# Altium integrated library Maxim Power and Battery Management.IntLib: 645 symbols (part 9 of 15)
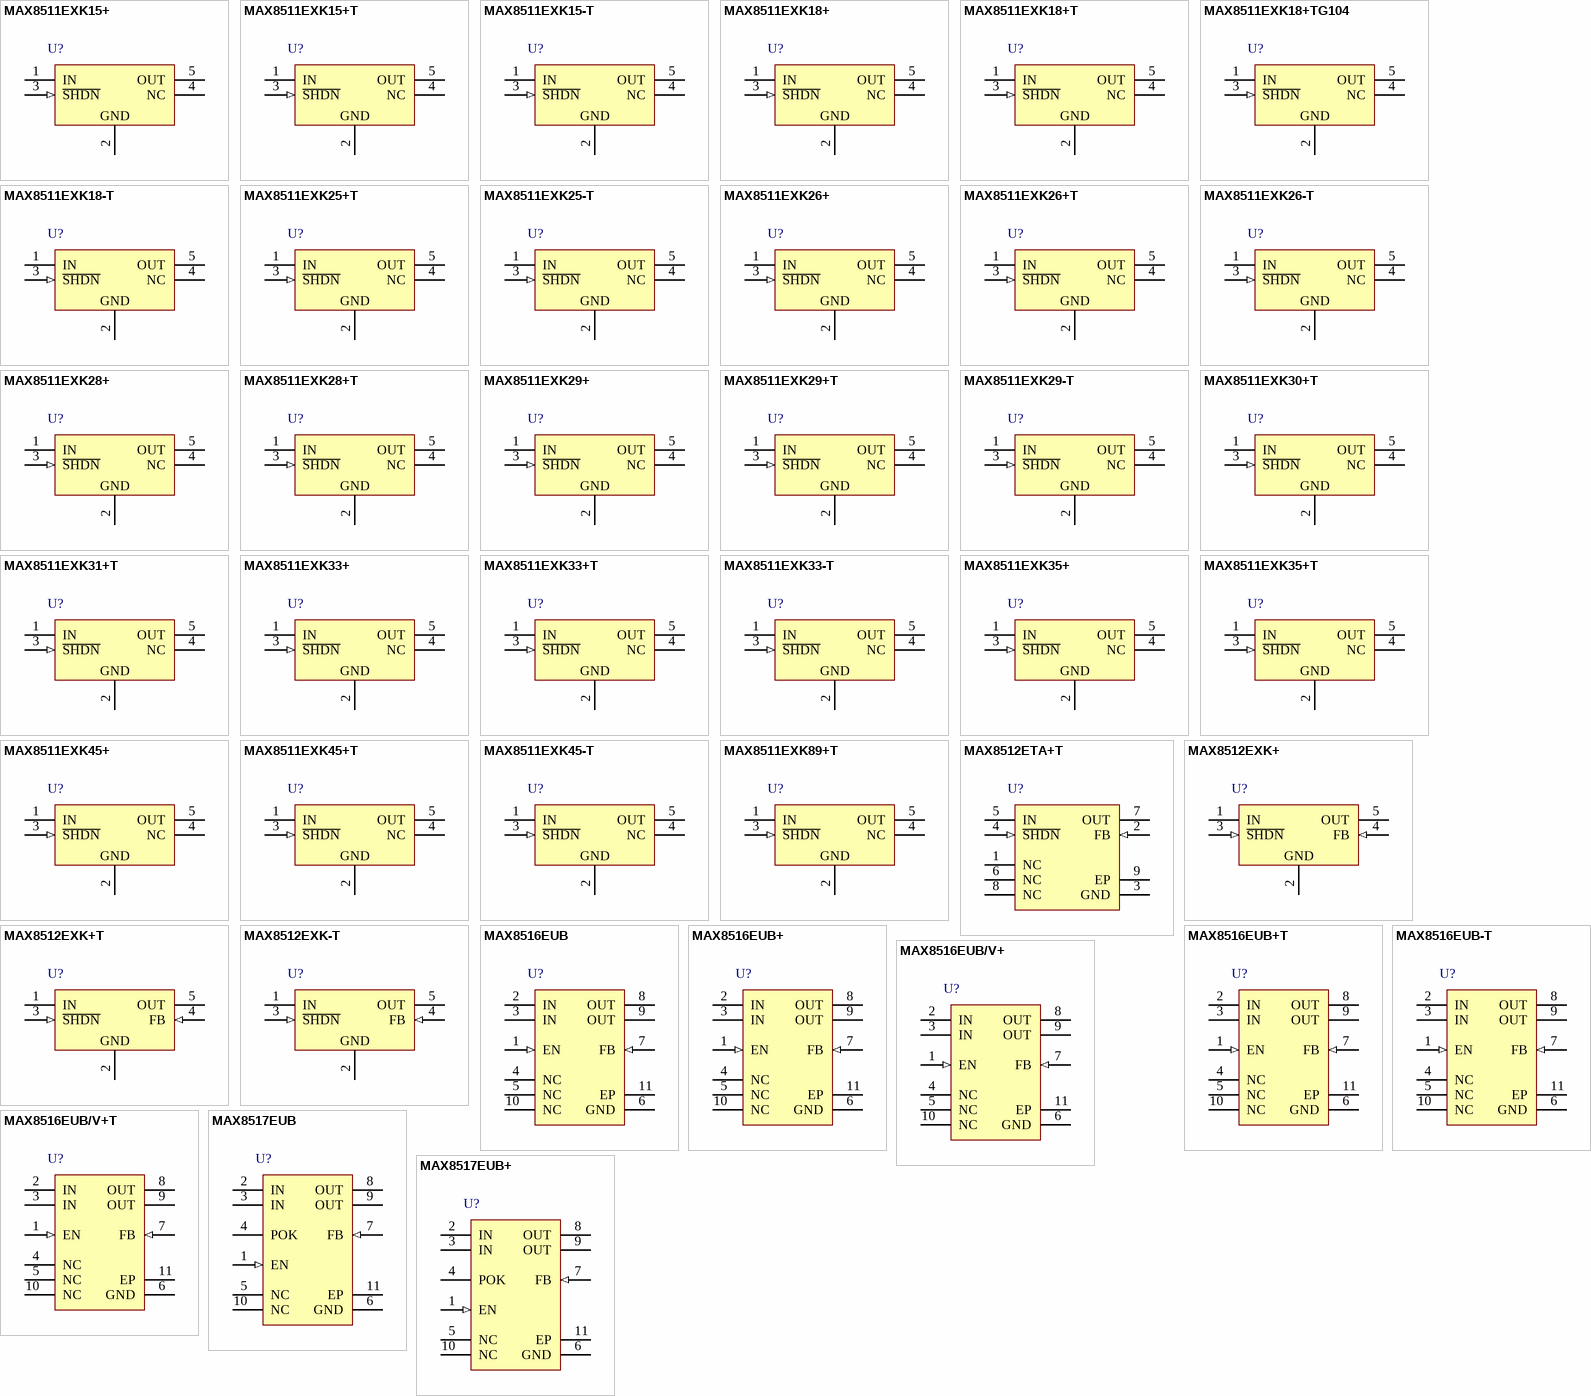
[diagram p27: symbols MAX8511EXK15+ to MAX8517EUB+]

## MAX8511EXK33+T
designator U?
Ultra-Low-Noise, High PSRR, Low-Dropout, 120mA Linear Regulator, 3.3V Out, 5-Pin SC70, -40°C to +85°C, Pb-Free, Tape and Reel; DatasheetVersion: Rev 4, Aug-2011; PackageVersion: revE, 2006; PackageReference: X5+1; PackageDescription: 5-Pin SC70 Transistor Package, 0.65 mm Pitch, 2.2 mm Lead Span; Code_JEDEC: MO-203; ComponentLink1Description: Manufacturer URL; ComponentLink1URL: http://www.maxim-ic.com; ComponentLink2Description: Datasheet; ComponentLink2URL: http://datasheets.maxim-ic.com/en/ds/MAX8510-MAX8512.pdf; ComponentLink3Description: Package Specification; ComponentLink3URL: http://pdfserv.maxim-ic.com/package_dwgs/21-0076.PDF
footprint X5+1_N (SOT353, 5-Leads, Body 2x1.3mm, Pitch 0.65mm, Lead Span 2.1mm, IPC Medium Density)
footprint X5+1_L (SOT353, 5-Leads, Body 2x1.3mm, Pitch 0.65mm, Lead Span 2.1mm, IPC High Density)
footprint X5+1_M (SOT353, 5-Leads, Body 2x1.3mm, Pitch 0.65mm, Lead Span 2.1mm, IPC Low Density)
pins: 1 IN (power), 2 GND (power), 3 ~{SHDN} (in), 4 NC, 5 OUT (power)

## MAX8511EXK33-T
designator U?
Ultra-Low-Noise, High PSRR, Low-Dropout, 120mA Linear Regulator, 3.3V Out, 5-Pin SC70, -40°C to +85°C, Tape and Reel; DatasheetVersion: Rev 4, Aug-2011; PackageVersion: revE, 2006; PackageReference: X5-1; PackageDescription: 5-Pin SC70 Transistor Package, 0.65 mm Pitch, 2.2 mm Lead Span; Code_JEDEC: MO-203; ComponentLink1Description: Manufacturer URL; ComponentLink1URL: http://www.maxim-ic.com; ComponentLink2Description: Datasheet; ComponentLink2URL: http://datasheets.maxim-ic.com/en/ds/MAX8510-MAX8512.pdf; ComponentLink3Description: Package Specification; ComponentLink3URL: http://pdfserv.maxim-ic.com/package_dwgs/21-0076.PDF
footprint X5-1_N (SOT353, 5-Leads, Body 2x1.3mm, Pitch 0.65mm, Lead Span 2.1mm, IPC Medium Density)
footprint X5-1_L (SOT353, 5-Leads, Body 2x1.3mm, Pitch 0.65mm, Lead Span 2.1mm, IPC High Density)
footprint X5-1_M (SOT353, 5-Leads, Body 2x1.3mm, Pitch 0.65mm, Lead Span 2.1mm, IPC Low Density)
pins: 1 IN (power), 2 GND (power), 3 ~{SHDN} (in), 4 NC, 5 OUT (power)

## MAX8511EXK35+
designator U?
Ultra-Low-Noise, High PSRR, Low-Dropout, 120mA Linear Regulator, 5-Pin SC70, -40°C to +85°C, Pb-Free; DatasheetVersion: Rev 4, Aug-2011; PackageVersion: revE, 2006; PackageReference: X5+1; PackageDescription: 5-Pin SC70 Transistor Package, 0.65 mm Pitch, 2.2 mm Lead Span; Code_JEDEC: MO-203; ComponentLink1Description: Manufacturer URL; ComponentLink1URL: http://www.maxim-ic.com; ComponentLink2Description: Datasheet; ComponentLink2URL: http://datasheets.maxim-ic.com/en/ds/MAX8510-MAX8512.pdf; ComponentLink3Description: Package Specification; ComponentLink3URL: http://pdfserv.maxim-ic.com/package_dwgs/21-0076.PDF
footprint X5+1_N (SOT353, 5-Leads, Body 2x1.3mm, Pitch 0.65mm, Lead Span 2.1mm, IPC Medium Density)
footprint X5+1_L (SOT353, 5-Leads, Body 2x1.3mm, Pitch 0.65mm, Lead Span 2.1mm, IPC High Density)
footprint X5+1_M (SOT353, 5-Leads, Body 2x1.3mm, Pitch 0.65mm, Lead Span 2.1mm, IPC Low Density)
pins: 1 IN (power), 2 GND (power), 3 ~{SHDN} (in), 4 NC, 5 OUT (power)

## MAX8511EXK35+T
designator U?
Ultra-Low-Noise, High PSRR, Low-Dropout, 120mA Linear Regulator, 5-Pin SC70, -40°C to +85°C, Pb-Free, Tape and Reel; DatasheetVersion: Rev 4, Aug-2011; PackageVersion: revE, 2006; PackageReference: X5+1; PackageDescription: 5-Pin SC70 Transistor Package, 0.65 mm Pitch, 2.2 mm Lead Span; Code_JEDEC: MO-203; ComponentLink1Description: Manufacturer URL; ComponentLink1URL: http://www.maxim-ic.com; ComponentLink2Description: Datasheet; ComponentLink2URL: http://datasheets.maxim-ic.com/en/ds/MAX8510-MAX8512.pdf; ComponentLink3Description: Package Specification; ComponentLink3URL: http://pdfserv.maxim-ic.com/package_dwgs/21-0076.PDF
footprint X5+1_N (SOT353, 5-Leads, Body 2x1.3mm, Pitch 0.65mm, Lead Span 2.1mm, IPC Medium Density)
footprint X5+1_L (SOT353, 5-Leads, Body 2x1.3mm, Pitch 0.65mm, Lead Span 2.1mm, IPC High Density)
footprint X5+1_M (SOT353, 5-Leads, Body 2x1.3mm, Pitch 0.65mm, Lead Span 2.1mm, IPC Low Density)
pins: 1 IN (power), 2 GND (power), 3 ~{SHDN} (in), 4 NC, 5 OUT (power)

## MAX8511EXK45+
designator U?
Ultra-Low-Noise, High PSRR, Low-Dropout, 120mA Linear Regulator, 4.5V Out, 5-Pin SC70, -40°C to +85°C, Pb-Free; DatasheetVersion: Rev 4, Aug-2011; PackageVersion: revE, 2006; PackageReference: X5+1; PackageDescription: 5-Pin SC70 Transistor Package, 0.65 mm Pitch, 2.2 mm Lead Span; Code_JEDEC: MO-203; ComponentLink1Description: Manufacturer URL; ComponentLink1URL: http://www.maxim-ic.com; ComponentLink2Description: Datasheet; ComponentLink2URL: http://datasheets.maxim-ic.com/en/ds/MAX8510-MAX8512.pdf; ComponentLink3Description: Package Specification; ComponentLink3URL: http://pdfserv.maxim-ic.com/package_dwgs/21-0076.PDF
footprint X5+1_N (SOT353, 5-Leads, Body 2x1.3mm, Pitch 0.65mm, Lead Span 2.1mm, IPC Medium Density)
footprint X5+1_L (SOT353, 5-Leads, Body 2x1.3mm, Pitch 0.65mm, Lead Span 2.1mm, IPC High Density)
footprint X5+1_M (SOT353, 5-Leads, Body 2x1.3mm, Pitch 0.65mm, Lead Span 2.1mm, IPC Low Density)
pins: 1 IN (power), 2 GND (power), 3 ~{SHDN} (in), 4 NC, 5 OUT (power)

## MAX8511EXK45+T
designator U?
Ultra-Low-Noise, High PSRR, Low-Dropout, 120mA Linear Regulator, 4.5V Out, 5-Pin SC70, -40°C to +85°C, Pb-Free, Tape and Reel; DatasheetVersion: Rev 4, Aug-2011; PackageVersion: revE, 2006; PackageReference: X5+1; PackageDescription: 5-Pin SC70 Transistor Package, 0.65 mm Pitch, 2.2 mm Lead Span; Code_JEDEC: MO-203; ComponentLink1Description: Manufacturer URL; ComponentLink1URL: http://www.maxim-ic.com; ComponentLink2Description: Datasheet; ComponentLink2URL: http://datasheets.maxim-ic.com/en/ds/MAX8510-MAX8512.pdf; ComponentLink3Description: Package Specification; ComponentLink3URL: http://pdfserv.maxim-ic.com/package_dwgs/21-0076.PDF
footprint X5+1_N (SOT353, 5-Leads, Body 2x1.3mm, Pitch 0.65mm, Lead Span 2.1mm, IPC Medium Density)
footprint X5+1_L (SOT353, 5-Leads, Body 2x1.3mm, Pitch 0.65mm, Lead Span 2.1mm, IPC High Density)
footprint X5+1_M (SOT353, 5-Leads, Body 2x1.3mm, Pitch 0.65mm, Lead Span 2.1mm, IPC Low Density)
pins: 1 IN (power), 2 GND (power), 3 ~{SHDN} (in), 4 NC, 5 OUT (power)

## MAX8511EXK45-T
designator U?
Ultra-Low-Noise, High PSRR, Low-Dropout, 120mA Linear Regulator, 4.5V Out, 5-Pin SC70, -40°C to +85°C, Tape and Reel; DatasheetVersion: Rev 4, Aug-2011; PackageVersion: revE, 2006; PackageReference: X5-1; PackageDescription: 5-Pin SC70 Transistor Package, 0.65 mm Pitch, 2.2 mm Lead Span; Code_JEDEC: MO-203; ComponentLink1Description: Manufacturer URL; ComponentLink1URL: http://www.maxim-ic.com; ComponentLink2Description: Datasheet; ComponentLink2URL: http://datasheets.maxim-ic.com/en/ds/MAX8510-MAX8512.pdf; ComponentLink3Description: Package Specification; ComponentLink3URL: http://pdfserv.maxim-ic.com/package_dwgs/21-0076.PDF
footprint X5-1_N (SOT353, 5-Leads, Body 2x1.3mm, Pitch 0.65mm, Lead Span 2.1mm, IPC Medium Density)
footprint X5-1_L (SOT353, 5-Leads, Body 2x1.3mm, Pitch 0.65mm, Lead Span 2.1mm, IPC High Density)
footprint X5-1_M (SOT353, 5-Leads, Body 2x1.3mm, Pitch 0.65mm, Lead Span 2.1mm, IPC Low Density)
pins: 1 IN (power), 2 GND (power), 3 ~{SHDN} (in), 4 NC, 5 OUT (power)

## MAX8511EXK89+T
designator U?
Ultra-Low-Noise, High PSRR, Low-Dropout, 120mA Linear Regulator, 2.9V Out, 5-Pin SC70, -40°C to +85°C, Pb-Free, Tape and Reel; DatasheetVersion: Rev 4, Aug-2011; PackageVersion: revE, 2006; PackageReference: X5+1; PackageDescription: 5-Pin SC70 Transistor Package, 0.65 mm Pitch, 2.2 mm Lead Span; Code_JEDEC: MO-203; ComponentLink1Description: Manufacturer URL; ComponentLink1URL: http://www.maxim-ic.com; ComponentLink2Description: Datasheet; ComponentLink2URL: http://datasheets.maxim-ic.com/en/ds/MAX8510-MAX8512.pdf; ComponentLink3Description: Package Specification; ComponentLink3URL: http://pdfserv.maxim-ic.com/package_dwgs/21-0076.PDF
footprint X5+1_N (SOT353, 5-Leads, Body 2x1.3mm, Pitch 0.65mm, Lead Span 2.1mm, IPC Medium Density)
footprint X5+1_L (SOT353, 5-Leads, Body 2x1.3mm, Pitch 0.65mm, Lead Span 2.1mm, IPC High Density)
footprint X5+1_M (SOT353, 5-Leads, Body 2x1.3mm, Pitch 0.65mm, Lead Span 2.1mm, IPC Low Density)
pins: 1 IN (power), 2 GND (power), 3 ~{SHDN} (in), 4 NC, 5 OUT (power)

## MAX8512ETA+T
designator U?
Ultra-Low-Noise, High PSRR, Low-Dropout, 120mA Linear Regulator, Adjustable Vout, 8-Pin TDFN-EP, -40°C to +85°C, Pb-Free, Tape and Reel; DatasheetVersion: Rev 4, Aug-2011; PackageVersion: revF, 2011; PackageReference: T822+1; PackageDescription: 8-Pin Plastic Very Very Thin Dual Flatpack, No Leads, 2 x 2 x 0.75 mm Body, 0.5 mm Pitch, TDFN, Pb-Free; Code_JEDEC: MO-229*; ComponentLink1Description: Manufacturer URL; ComponentLink1URL: http://www.maxim-ic.com; ComponentLink2Description: Datasheet; ComponentLink2URL: http://datasheets.maxim-ic.com/en/ds/MAX8510-MAX8512.pdf; ComponentLink3Description: Package Specification; ComponentLink3URL: http://pdfserv.maxim-ic.com/package_dwgs/21-0168.PDF
footprint T822+1_N (SON, 8-Leads, Body 2x2mm, Pitch 0.5mm, Thermal Pad 1.3x0.7mm, IPC Medium Density)
footprint T822+1_L (SON, 8-Leads, Body 2x2mm, Pitch 0.5mm, Thermal Pad 1.3x0.7mm, IPC High Density)
footprint T822+1_M (SON, 8-Leads, Body 2x2mm, Pitch 0.5mm, Thermal Pad 1.3x0.7mm, IPC Low Density)
pins: 1 NC, 2 FB (in), 3 GND (power), 4 ~{SHDN} (in), 5 IN (power), 6 NC, 7 OUT (power), 8 NC, 9 EP (power)

## MAX8512EXK+
designator U?
Ultra-Low-Noise, High PSRR, Low-Dropout, 120mA Linear Regulator, Adjustable Vout, 5-Pin SC70, -40°C to +85°C, Pb-Free; DatasheetVersion: Rev 4, Aug-2011; PackageVersion: revE, 2006; PackageReference: X5+1; PackageDescription: 5-Pin SC70 Transistor Package, 0.65 mm Pitch, 2.2 mm Lead Span; Code_JEDEC: MO-203; ComponentLink1Description: Manufacturer URL; ComponentLink1URL: http://www.maxim-ic.com; ComponentLink2Description: Datasheet; ComponentLink2URL: http://datasheets.maxim-ic.com/en/ds/MAX8510-MAX8512.pdf; ComponentLink3Description: Package Specification; ComponentLink3URL: http://pdfserv.maxim-ic.com/package_dwgs/21-0076.PDF
footprint X5+1_N (SOT353, 5-Leads, Body 2x1.3mm, Pitch 0.65mm, Lead Span 2.1mm, IPC Medium Density)
footprint X5+1_L (SOT353, 5-Leads, Body 2x1.3mm, Pitch 0.65mm, Lead Span 2.1mm, IPC High Density)
footprint X5+1_M (SOT353, 5-Leads, Body 2x1.3mm, Pitch 0.65mm, Lead Span 2.1mm, IPC Low Density)
pins: 1 IN (power), 2 GND (power), 3 ~{SHDN} (in), 4 FB (in), 5 OUT (power)

## MAX8512EXK+T
designator U?
Ultra-Low-Noise, High PSRR, Low-Dropout, 120mA Linear Regulator, Adjustable Vout, 5-Pin SC70, -40°C to +85°C, Pb-Free, Tape and Reel; DatasheetVersion: Rev 4, Aug-2011; PackageVersion: revE, 2006; PackageReference: X5+1; PackageDescription: 5-Pin SC70 Transistor Package, 0.65 mm Pitch, 2.2 mm Lead Span; Code_JEDEC: MO-203; ComponentLink1Description: Manufacturer URL; ComponentLink1URL: http://www.maxim-ic.com; ComponentLink2Description: Datasheet; ComponentLink2URL: http://datasheets.maxim-ic.com/en/ds/MAX8510-MAX8512.pdf; ComponentLink3Description: Package Specification; ComponentLink3URL: http://pdfserv.maxim-ic.com/package_dwgs/21-0076.PDF
footprint X5+1_N (SOT353, 5-Leads, Body 2x1.3mm, Pitch 0.65mm, Lead Span 2.1mm, IPC Medium Density)
footprint X5+1_L (SOT353, 5-Leads, Body 2x1.3mm, Pitch 0.65mm, Lead Span 2.1mm, IPC High Density)
footprint X5+1_M (SOT353, 5-Leads, Body 2x1.3mm, Pitch 0.65mm, Lead Span 2.1mm, IPC Low Density)
pins: 1 IN (power), 2 GND (power), 3 ~{SHDN} (in), 4 FB (in), 5 OUT (power)

## MAX8512EXK-T
designator U?
Ultra-Low-Noise, High PSRR, Low-Dropout, 120mA Linear Regulator, Adjustable Vout, 5-Pin SC70, -40°C to +85°C, Tape and Reel; DatasheetVersion: Rev 4, Aug-2011; PackageVersion: revE, 2006; PackageReference: X5-1; PackageDescription: 5-Pin SC70 Transistor Package, 0.65 mm Pitch, 2.2 mm Lead Span; Code_JEDEC: MO-203; ComponentLink1Description: Manufacturer URL; ComponentLink1URL: http://www.maxim-ic.com; ComponentLink2Description: Datasheet; ComponentLink2URL: http://datasheets.maxim-ic.com/en/ds/MAX8510-MAX8512.pdf; ComponentLink3Description: Package Specification; ComponentLink3URL: http://pdfserv.maxim-ic.com/package_dwgs/21-0076.PDF
footprint X5-1_N (SOT353, 5-Leads, Body 2x1.3mm, Pitch 0.65mm, Lead Span 2.1mm, IPC Medium Density)
footprint X5-1_L (SOT353, 5-Leads, Body 2x1.3mm, Pitch 0.65mm, Lead Span 2.1mm, IPC High Density)
footprint X5-1_M (SOT353, 5-Leads, Body 2x1.3mm, Pitch 0.65mm, Lead Span 2.1mm, IPC Low Density)
pins: 1 IN (power), 2 GND (power), 3 ~{SHDN} (in), 4 FB (in), 5 OUT (power)

## MAX8516EUB
designator U?
1.425V to 3.6V Input, 1A, 0.2V Dropout LDO Regulator, 10-Pin uMax-EP, -40°C to +85°C; DatasheetVersion: Rev 2, Sep-2009; PackageVersion: revF, 2011; PackageReference: U10E-3; PackageDescription: 10-Pin Micro-MAX, Thin Shrink Small-Outline, 0.5 mm Pitch, Exposed Pad, uMax, uSOP; ComponentLink1Description: Manufacturer URL; ComponentLink1URL: http://www.maxim-ic.com; ComponentLink2Description: Datasheet; ComponentLink2URL: http://datasheets.maxim-ic.com/en/ds/MAX8516-MAX8518.pdf; ComponentLink3Description: Package Specification; ComponentLink3URL: http://pdfserv.maxim-ic.com/package_dwgs/21-0109.PDF
footprint U10E-3_N (TSSOP, 10-Leads, Body 3x3mm, Pitch 0.5mm, Thermal Pad, IPC Medium Density)
footprint U10E-3_L (TSSOP, 10-Leads, Body 3x3mm, Pitch 0.5mm, Thermal Pad, IPC High Density)
footprint U10E-3_M (TSSOP, 10-Leads, Body 3x3mm, Pitch 0.5mm, Thermal Pad, IPC Low Density)
pins: 1 EN (in), 2 IN (power), 3 IN (power), 4 NC, 5 NC, 6 GND (power), 7 FB (in), 8 OUT (power), 9 OUT (power), 10 NC, 11 EP (power)

## MAX8516EUB+
designator U?
1.425V to 3.6V Input, 1A, 0.2V Dropout LDO Regulator, 10-Pin uMax-EP, -40°C to +85°C, Pb-Free; DatasheetVersion: Rev 2, Sep-2009; PackageVersion: revF, 2011; PackageReference: U10E+3; PackageDescription: 10-Pin Micro-MAX, Thin Shrink Small-Outline, 0.5 mm Pitch, Exposed Pad, uMax, uSOP, Pb-Free; ComponentLink1Description: Manufacturer URL; ComponentLink1URL: http://www.maxim-ic.com; ComponentLink2Description: Datasheet; ComponentLink2URL: http://datasheets.maxim-ic.com/en/ds/MAX8516-MAX8518.pdf; ComponentLink3Description: Package Specification; ComponentLink3URL: http://pdfserv.maxim-ic.com/package_dwgs/21-0109.PDF
footprint U10E+3_N (TSSOP, 10-Leads, Body 3x3mm, Pitch 0.5mm, Thermal Pad, IPC Medium Density)
footprint U10E+3_L (TSSOP, 10-Leads, Body 3x3mm, Pitch 0.5mm, Thermal Pad, IPC High Density)
footprint U10E+3_M (TSSOP, 10-Leads, Body 3x3mm, Pitch 0.5mm, Thermal Pad, IPC Low Density)
pins: 1 EN (in), 2 IN (power), 3 IN (power), 4 NC, 5 NC, 6 GND (power), 7 FB (in), 8 OUT (power), 9 OUT (power), 10 NC, 11 EP (power)

## MAX8516EUB+T
designator U?
1.425V to 3.6V Input, 1A, 0.2V Dropout LDO Regulator, 10-Pin uMax-EP, -40°C to +85°C, Pb-Free, Tape and Reel; DatasheetVersion: Rev 2, Sep-2009; PackageVersion: revF, 2011; PackageReference: U10E+3; PackageDescription: 10-Pin Micro-MAX, Thin Shrink Small-Outline, 0.5 mm Pitch, Exposed Pad, uMax, uSOP, Pb-Free; ComponentLink1Description: Manufacturer URL; ComponentLink1URL: http://www.maxim-ic.com; ComponentLink2Description: Datasheet; ComponentLink2URL: http://datasheets.maxim-ic.com/en/ds/MAX8516-MAX8518.pdf; ComponentLink3Description: Package Specification; ComponentLink3URL: http://pdfserv.maxim-ic.com/package_dwgs/21-0109.PDF
footprint U10E+3_N (TSSOP, 10-Leads, Body 3x3mm, Pitch 0.5mm, Thermal Pad, IPC Medium Density)
footprint U10E+3_L (TSSOP, 10-Leads, Body 3x3mm, Pitch 0.5mm, Thermal Pad, IPC High Density)
footprint U10E+3_M (TSSOP, 10-Leads, Body 3x3mm, Pitch 0.5mm, Thermal Pad, IPC Low Density)
pins: 1 EN (in), 2 IN (power), 3 IN (power), 4 NC, 5 NC, 6 GND (power), 7 FB (in), 8 OUT (power), 9 OUT (power), 10 NC, 11 EP (power)

## MAX8516EUB-T
designator U?
1.425V to 3.6V Input, 1A, 0.2V Dropout LDO Regulator, 10-Pin uMax-EP, -40°C to +85°C, Tape and Reel; DatasheetVersion: Rev 2, Sep-2009; PackageVersion: revF, 2011; PackageReference: U10E-3; PackageDescription: 10-Pin Micro-MAX, Thin Shrink Small-Outline, 0.5 mm Pitch, Exposed Pad, uMax, uSOP; ComponentLink1Description: Manufacturer URL; ComponentLink1URL: http://www.maxim-ic.com; ComponentLink2Description: Datasheet; ComponentLink2URL: http://datasheets.maxim-ic.com/en/ds/MAX8516-MAX8518.pdf; ComponentLink3Description: Package Specification; ComponentLink3URL: http://pdfserv.maxim-ic.com/package_dwgs/21-0109.PDF
footprint U10E-3_N (TSSOP, 10-Leads, Body 3x3mm, Pitch 0.5mm, Thermal Pad, IPC Medium Density)
footprint U10E-3_L (TSSOP, 10-Leads, Body 3x3mm, Pitch 0.5mm, Thermal Pad, IPC High Density)
footprint U10E-3_M (TSSOP, 10-Leads, Body 3x3mm, Pitch 0.5mm, Thermal Pad, IPC Low Density)
pins: 1 EN (in), 2 IN (power), 3 IN (power), 4 NC, 5 NC, 6 GND (power), 7 FB (in), 8 OUT (power), 9 OUT (power), 10 NC, 11 EP (power)

## MAX8516EUB/V+
designator U?
1.425V to 3.6V Input, 1A, 0.2V Dropout LDO Regulator, Automotive Qualified, 10-Pin uMax-EP, -40°C to +85°C, Pb-Free; DatasheetVersion: Rev 2, Sep-2009; PackageVersion: revF, 2011; PackageReference: U10E+3; PackageDescription: 10-Pin Micro-MAX, Thin Shrink Small-Outline, 0.5 mm Pitch, Exposed Pad, uMax, uSOP, Pb-Free; ComponentLink1Description: Manufacturer URL; ComponentLink1URL: http://www.maxim-ic.com; ComponentLink2Description: Datasheet; ComponentLink2URL: http://datasheets.maxim-ic.com/en/ds/MAX8516-MAX8518.pdf; ComponentLink3Description: Package Specification; ComponentLink3URL: http://pdfserv.maxim-ic.com/package_dwgs/21-0109.PDF
footprint U10E+3_N (TSSOP, 10-Leads, Body 3x3mm, Pitch 0.5mm, Thermal Pad, IPC Medium Density)
footprint U10E+3_L (TSSOP, 10-Leads, Body 3x3mm, Pitch 0.5mm, Thermal Pad, IPC High Density)
footprint U10E+3_M (TSSOP, 10-Leads, Body 3x3mm, Pitch 0.5mm, Thermal Pad, IPC Low Density)
pins: 1 EN (in), 2 IN (power), 3 IN (power), 4 NC, 5 NC, 6 GND (power), 7 FB (in), 8 OUT (power), 9 OUT (power), 10 NC, 11 EP (power)

## MAX8516EUB/V+T
designator U?
1.425V to 3.6V Input, 1A, 0.2V Dropout LDO Regulator, Automotive Qualified, 10-Pin uMax-EP, -40°C to +85°C, Pb-Free, Tape and Reel; DatasheetVersion: Rev 2, Sep-2009; PackageVersion: revF, 2011; PackageReference: U10E+3; PackageDescription: 10-Pin Micro-MAX, Thin Shrink Small-Outline, 0.5 mm Pitch, Exposed Pad, uMax, uSOP, Pb-Free; ComponentLink1Description: Manufacturer URL; ComponentLink1URL: http://www.maxim-ic.com; ComponentLink2Description: Datasheet; ComponentLink2URL: http://datasheets.maxim-ic.com/en/ds/MAX8516-MAX8518.pdf; ComponentLink3Description: Package Specification; ComponentLink3URL: http://pdfserv.maxim-ic.com/package_dwgs/21-0109.PDF
footprint U10E+3_N (TSSOP, 10-Leads, Body 3x3mm, Pitch 0.5mm, Thermal Pad, IPC Medium Density)
footprint U10E+3_L (TSSOP, 10-Leads, Body 3x3mm, Pitch 0.5mm, Thermal Pad, IPC High Density)
footprint U10E+3_M (TSSOP, 10-Leads, Body 3x3mm, Pitch 0.5mm, Thermal Pad, IPC Low Density)
pins: 1 EN (in), 2 IN (power), 3 IN (power), 4 NC, 5 NC, 6 GND (power), 7 FB (in), 8 OUT (power), 9 OUT (power), 10 NC, 11 EP (power)

## MAX8517EUB
designator U?
1.425V to 3.6V Input, 1A, 0.2V Dropout LDO Regulator with POK Output, 10-Pin uMax-EP, -40°C to +85°C; DatasheetVersion: Rev 2, Sep-2009; PackageVersion: revF, 2011; PackageReference: U10E-3; PackageDescription: 10-Pin Micro-MAX, Thin Shrink Small-Outline, 0.5 mm Pitch, Exposed Pad, uMax, uSOP; ComponentLink1Description: Manufacturer URL; ComponentLink1URL: http://www.maxim-ic.com; ComponentLink2Description: Datasheet; ComponentLink2URL: http://datasheets.maxim-ic.com/en/ds/MAX8516-MAX8518.pdf; ComponentLink3Description: Package Specification; ComponentLink3URL: http://pdfserv.maxim-ic.com/package_dwgs/21-0109.PDF
footprint U10E-3_N (TSSOP, 10-Leads, Body 3x3mm, Pitch 0.5mm, Thermal Pad, IPC Medium Density)
footprint U10E-3_L (TSSOP, 10-Leads, Body 3x3mm, Pitch 0.5mm, Thermal Pad, IPC High Density)
footprint U10E-3_M (TSSOP, 10-Leads, Body 3x3mm, Pitch 0.5mm, Thermal Pad, IPC Low Density)
pins: 1 EN (in), 2 IN (power), 3 IN (power), 4 POK (oc), 5 NC, 6 GND (power), 7 FB (in), 8 OUT (power), 9 OUT (power), 10 NC, 11 EP (power)

## MAX8517EUB+
designator U?
1.425V to 3.6V Input, 1A, 0.2V Dropout LDO Regulator with POK Output, 10-Pin uMax-EP, -40°C to +85°C, Pb-Free; DatasheetVersion: Rev 2, Sep-2009; PackageVersion: revF, 2011; PackageReference: U10E+3; PackageDescription: 10-Pin Micro-MAX, Thin Shrink Small-Outline, 0.5 mm Pitch, Exposed Pad, uMax, uSOP, Pb-Free; ComponentLink1Description: Manufacturer URL; ComponentLink1URL: http://www.maxim-ic.com; ComponentLink2Description: Datasheet; ComponentLink2URL: http://datasheets.maxim-ic.com/en/ds/MAX8516-MAX8518.pdf; ComponentLink3Description: Package Specification; ComponentLink3URL: http://pdfserv.maxim-ic.com/package_dwgs/21-0109.PDF
footprint U10E+3_N (TSSOP, 10-Leads, Body 3x3mm, Pitch 0.5mm, Thermal Pad, IPC Medium Density)
footprint U10E+3_L (TSSOP, 10-Leads, Body 3x3mm, Pitch 0.5mm, Thermal Pad, IPC High Density)
footprint U10E+3_M (TSSOP, 10-Leads, Body 3x3mm, Pitch 0.5mm, Thermal Pad, IPC Low Density)
pins: 1 EN (in), 2 IN (power), 3 IN (power), 4 POK (oc), 5 NC, 6 GND (power), 7 FB (in), 8 OUT (power), 9 OUT (power), 10 NC, 11 EP (power)

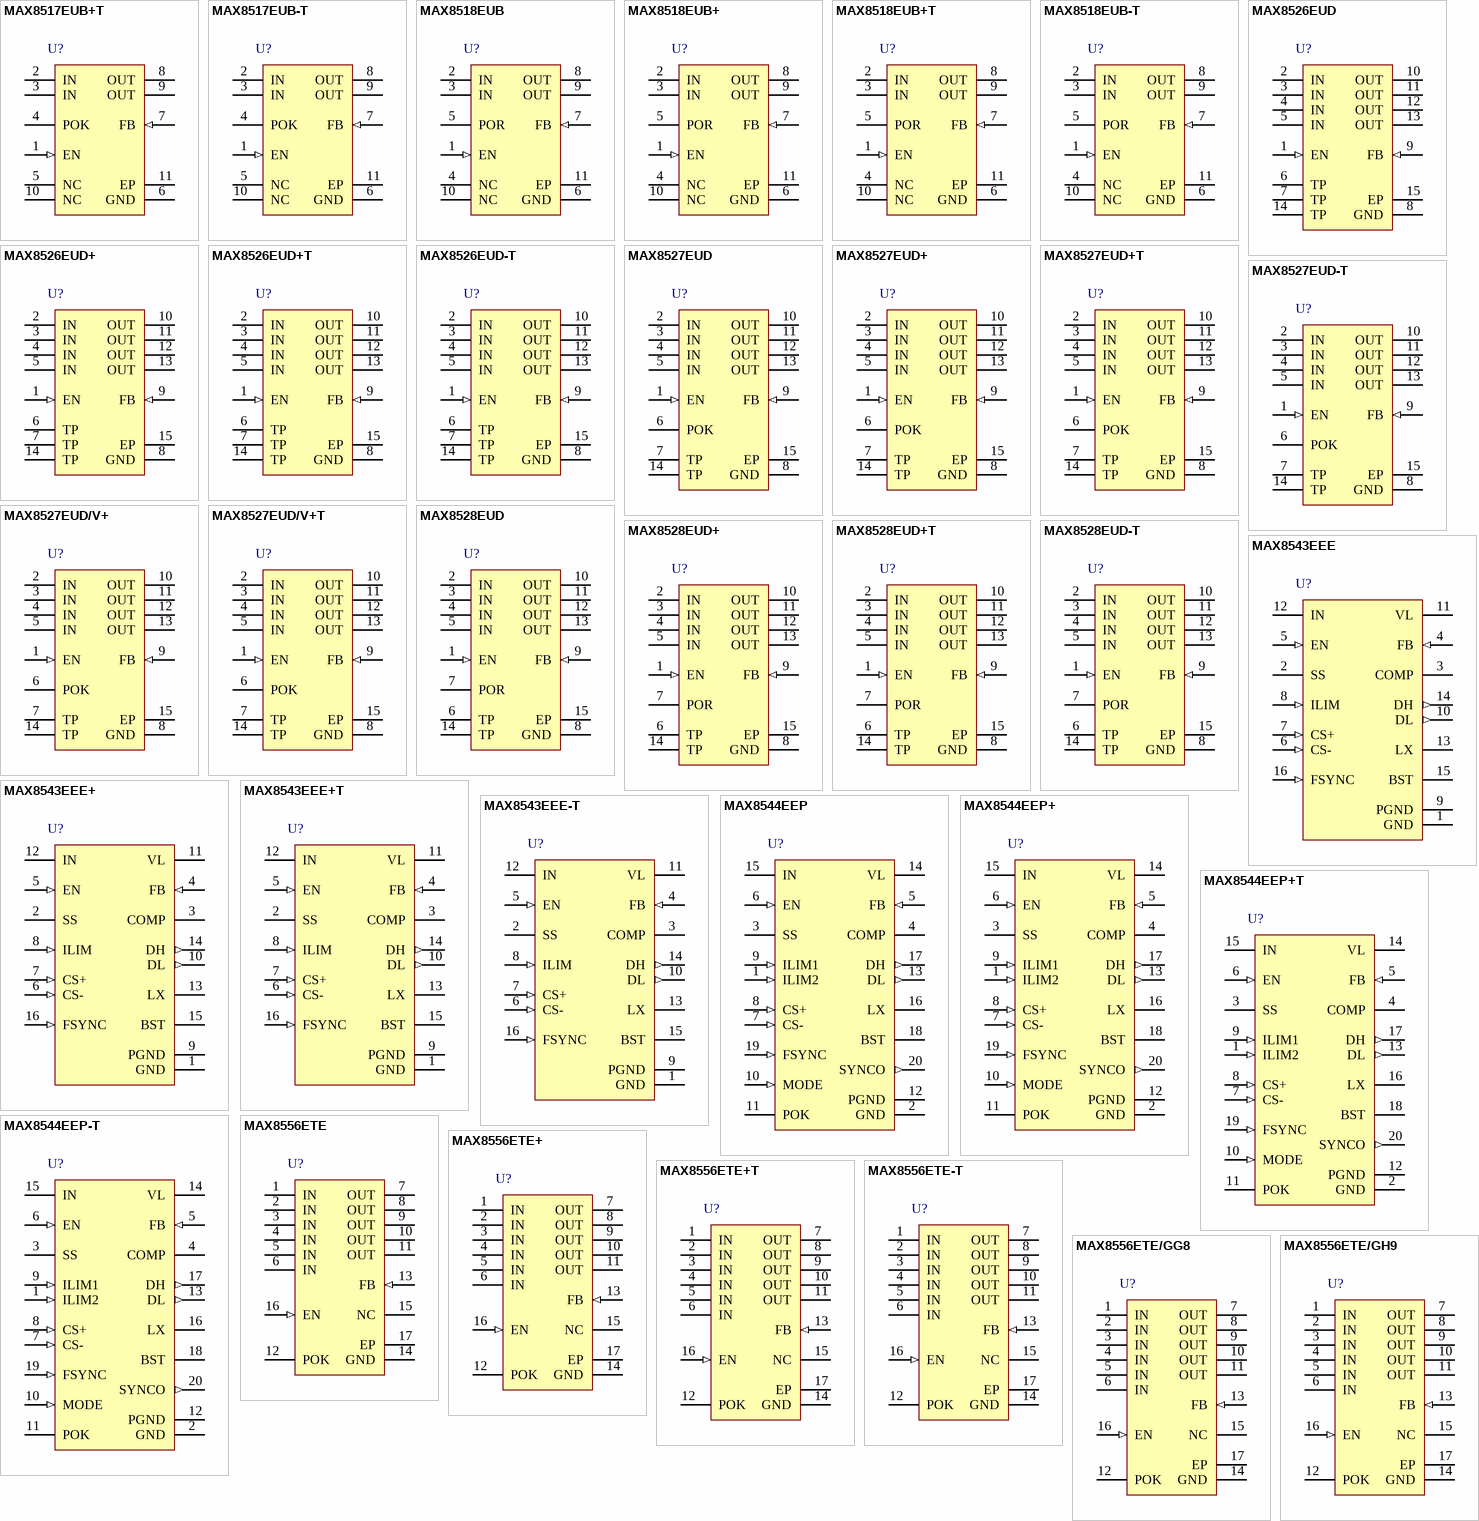
[diagram p11: symbols MAX8517EUB+T to MAX8556ETE/GH9]

## MAX8517EUB+T
designator U?
1.425V to 3.6V Input, 1A, 0.2V Dropout LDO Regulator with POK Output, 10-Pin uMax-EP, -40°C to +85°C, Pb-Free, Tape and Reel; DatasheetVersion: Rev 2, Sep-2009; PackageVersion: revF, 2011; PackageReference: U10E+3; PackageDescription: 10-Pin Micro-MAX, Thin Shrink Small-Outline, 0.5 mm Pitch, Exposed Pad, uMax, uSOP, Pb-Free; ComponentLink1Description: Manufacturer URL; ComponentLink1URL: http://www.maxim-ic.com; ComponentLink2Description: Datasheet; ComponentLink2URL: http://datasheets.maxim-ic.com/en/ds/MAX8516-MAX8518.pdf; ComponentLink3Description: Package Specification; ComponentLink3URL: http://pdfserv.maxim-ic.com/package_dwgs/21-0109.PDF
footprint U10E+3_N (TSSOP, 10-Leads, Body 3x3mm, Pitch 0.5mm, Thermal Pad, IPC Medium Density)
footprint U10E+3_L (TSSOP, 10-Leads, Body 3x3mm, Pitch 0.5mm, Thermal Pad, IPC High Density)
footprint U10E+3_M (TSSOP, 10-Leads, Body 3x3mm, Pitch 0.5mm, Thermal Pad, IPC Low Density)
pins: 1 EN (in), 2 IN (power), 3 IN (power), 4 POK (oc), 5 NC, 6 GND (power), 7 FB (in), 8 OUT (power), 9 OUT (power), 10 NC, 11 EP (power)

## MAX8517EUB-T
designator U?
1.425V to 3.6V Input, 1A, 0.2V Dropout LDO Regulator with POK Output, 10-Pin uMax-EP, -40°C to +85°C, Tape and Reel; DatasheetVersion: Rev 2, Sep-2009; PackageVersion: revF, 2011; PackageReference: U10E-3; PackageDescription: 10-Pin Micro-MAX, Thin Shrink Small-Outline, 0.5 mm Pitch, Exposed Pad, uMax, uSOP; ComponentLink1Description: Manufacturer URL; ComponentLink1URL: http://www.maxim-ic.com; ComponentLink2Description: Datasheet; ComponentLink2URL: http://datasheets.maxim-ic.com/en/ds/MAX8516-MAX8518.pdf; ComponentLink3Description: Package Specification; ComponentLink3URL: http://pdfserv.maxim-ic.com/package_dwgs/21-0109.PDF
footprint U10E-3_N (TSSOP, 10-Leads, Body 3x3mm, Pitch 0.5mm, Thermal Pad, IPC Medium Density)
footprint U10E-3_L (TSSOP, 10-Leads, Body 3x3mm, Pitch 0.5mm, Thermal Pad, IPC High Density)
footprint U10E-3_M (TSSOP, 10-Leads, Body 3x3mm, Pitch 0.5mm, Thermal Pad, IPC Low Density)
pins: 1 EN (in), 2 IN (power), 3 IN (power), 4 POK (oc), 5 NC, 6 GND (power), 7 FB (in), 8 OUT (power), 9 OUT (power), 10 NC, 11 EP (power)

## MAX8518EUB
designator U?
1.425V to 3.6V Input, 1A, 0.2V Dropout LDO Regulator with 150ms Power-On Reset Output, 10-Pin uMax-EP, -40°C to +85°C; DatasheetVersion: Rev 2, Sep-2009; PackageVersion: revF, 2011; PackageReference: U10E-3; PackageDescription: 10-Pin Micro-MAX, Thin Shrink Small-Outline, 0.5 mm Pitch, Exposed Pad, uMax, uSOP; ComponentLink1Description: Manufacturer URL; ComponentLink1URL: http://www.maxim-ic.com; ComponentLink2Description: Datasheet; ComponentLink2URL: http://datasheets.maxim-ic.com/en/ds/MAX8516-MAX8518.pdf; ComponentLink3Description: Package Specification; ComponentLink3URL: http://pdfserv.maxim-ic.com/package_dwgs/21-0109.PDF
footprint U10E-3_N (TSSOP, 10-Leads, Body 3x3mm, Pitch 0.5mm, Thermal Pad, IPC Medium Density)
footprint U10E-3_L (TSSOP, 10-Leads, Body 3x3mm, Pitch 0.5mm, Thermal Pad, IPC High Density)
footprint U10E-3_M (TSSOP, 10-Leads, Body 3x3mm, Pitch 0.5mm, Thermal Pad, IPC Low Density)
pins: 1 EN (in), 2 IN (power), 3 IN (power), 4 NC, 5 POR (oc), 6 GND (power), 7 FB (in), 8 OUT (power), 9 OUT (power), 10 NC, 11 EP (power)

## MAX8518EUB+
designator U?
1.425V to 3.6V Input, 1A, 0.2V Dropout LDO Regulator with 150ms Power-On Reset Output, 10-Pin uMax-EP, -40°C to +85°C, Pb-Free; DatasheetVersion: Rev 2, Sep-2009; PackageVersion: revF, 2011; PackageReference: U10E+3; PackageDescription: 10-Pin Micro-MAX, Thin Shrink Small-Outline, 0.5 mm Pitch, Exposed Pad, uMax, uSOP, Pb-Free; ComponentLink1Description: Manufacturer URL; ComponentLink1URL: http://www.maxim-ic.com; ComponentLink2Description: Datasheet; ComponentLink2URL: http://datasheets.maxim-ic.com/en/ds/MAX8516-MAX8518.pdf; ComponentLink3Description: Package Specification; ComponentLink3URL: http://pdfserv.maxim-ic.com/package_dwgs/21-0109.PDF
footprint U10E+3_N (TSSOP, 10-Leads, Body 3x3mm, Pitch 0.5mm, Thermal Pad, IPC Medium Density)
footprint U10E+3_L (TSSOP, 10-Leads, Body 3x3mm, Pitch 0.5mm, Thermal Pad, IPC High Density)
footprint U10E+3_M (TSSOP, 10-Leads, Body 3x3mm, Pitch 0.5mm, Thermal Pad, IPC Low Density)
pins: 1 EN (in), 2 IN (power), 3 IN (power), 4 NC, 5 POR (oc), 6 GND (power), 7 FB (in), 8 OUT (power), 9 OUT (power), 10 NC, 11 EP (power)

## MAX8518EUB+T
designator U?
1.425V to 3.6V Input, 1A, 0.2V Dropout LDO Regulator with 150ms Power-On Reset Output, 10-Pin uMax-EP, -40°C to +85°C, Pb-Free, Tape and Reel; DatasheetVersion: Rev 2, Sep-2009; PackageVersion: revF, 2011; PackageReference: U10E+3; PackageDescription: 10-Pin Micro-MAX, Thin Shrink Small-Outline, 0.5 mm Pitch, Exposed Pad, uMax, uSOP, Pb-Free; ComponentLink1Description: Manufacturer URL; ComponentLink1URL: http://www.maxim-ic.com; ComponentLink2Description: Datasheet; ComponentLink2URL: http://datasheets.maxim-ic.com/en/ds/MAX8516-MAX8518.pdf; ComponentLink3Description: Package Specification; ComponentLink3URL: http://pdfserv.maxim-ic.com/package_dwgs/21-0109.PDF
footprint U10E+3_N (TSSOP, 10-Leads, Body 3x3mm, Pitch 0.5mm, Thermal Pad, IPC Medium Density)
footprint U10E+3_L (TSSOP, 10-Leads, Body 3x3mm, Pitch 0.5mm, Thermal Pad, IPC High Density)
footprint U10E+3_M (TSSOP, 10-Leads, Body 3x3mm, Pitch 0.5mm, Thermal Pad, IPC Low Density)
pins: 1 EN (in), 2 IN (power), 3 IN (power), 4 NC, 5 POR (oc), 6 GND (power), 7 FB (in), 8 OUT (power), 9 OUT (power), 10 NC, 11 EP (power)

## MAX8518EUB-T
designator U?
1.425V to 3.6V Input, 1A, 0.2V Dropout LDO Regulator with 150ms Power-On Reset Output, 10-Pin uMax-EP, -40°C to +85°C, Tape and Reel; DatasheetVersion: Rev 2, Sep-2009; PackageVersion: revF, 2011; PackageReference: U10E-3; PackageDescription: 10-Pin Micro-MAX, Thin Shrink Small-Outline, 0.5 mm Pitch, Exposed Pad, uMax, uSOP; ComponentLink1Description: Manufacturer URL; ComponentLink1URL: http://www.maxim-ic.com; ComponentLink2Description: Datasheet; ComponentLink2URL: http://datasheets.maxim-ic.com/en/ds/MAX8516-MAX8518.pdf; ComponentLink3Description: Package Specification; ComponentLink3URL: http://pdfserv.maxim-ic.com/package_dwgs/21-0109.PDF
footprint U10E-3_N (TSSOP, 10-Leads, Body 3x3mm, Pitch 0.5mm, Thermal Pad, IPC Medium Density)
footprint U10E-3_L (TSSOP, 10-Leads, Body 3x3mm, Pitch 0.5mm, Thermal Pad, IPC High Density)
footprint U10E-3_M (TSSOP, 10-Leads, Body 3x3mm, Pitch 0.5mm, Thermal Pad, IPC Low Density)
pins: 1 EN (in), 2 IN (power), 3 IN (power), 4 NC, 5 POR (oc), 6 GND (power), 7 FB (in), 8 OUT (power), 9 OUT (power), 10 NC, 11 EP (power)

## MAX8526EUD
designator U?
1.425V to 3.6V Input, 2A, 0.2V Dropout LDO Regulator, 14-Pin TSSOP-EP, -40°C to +85°C; DatasheetVersion: Rev 2, Aug-2009; PackageVersion: revK, 2010; PackageReference: U14E-3; PackageDescription: 14-Pin Thin Shrink Small-Outline Package, Exposed Pad, 5 x 4.4 mm Body ,0.65 mm Pitch; Code_JEDEC: MO-153-ABT-1; ComponentLink1Description: Manufacturer URL; ComponentLink1URL: http://www.maxim-ic.com; ComponentLink2Description: Datasheet; ComponentLink2URL: http://datasheets.maxim-ic.com/en/ds/MAX8526-MAX8528.pdf; ComponentLink3Description: Package Specification; ComponentLink3URL: http://pdfserv.maxim-ic.com/package_dwgs/21-0108.PDF
footprint U14E-3_N (TSSOP, 14-Leads, Body 5x4.4mm, Pitch 0.65mm, Thermal Pad, IPC Medium Density)
footprint U14E-3_L (TSSOP, 14-Leads, Body 5x4.4mm, Pitch 0.65mm, Thermal Pad, IPC High Density)
footprint U14E-3_M (TSSOP, 14-Leads, Body 5x4.4mm, Pitch 0.65mm, Thermal Pad, IPC Low Density)
pins: 1 EN (in), 2 IN (power), 3 IN (power), 4 IN (power), 5 IN (power), 6 TP, 7 TP, 8 GND (power), 9 FB (in), 10 OUT (power), 11 OUT (power), 12 OUT (power), 13 OUT (power), 14 TP, 15 EP (power)

## MAX8526EUD+
designator U?
1.425V to 3.6V Input, 2A, 0.2V Dropout LDO Regulator, 14-Pin TSSOP-EP, -40°C to +85°C, Pb-Free; DatasheetVersion: Rev 2, Aug-2009; PackageVersion: revK, 2010; PackageReference: U14E+3; PackageDescription: 14-Pin Thin Shrink Small-Outline Package, Exposed Pad, 5 x 4.4 mm Body ,0.65 mm Pitch, Pb-Free; Code_JEDEC: MO-153-ABT-1; ComponentLink1Description: Manufacturer URL; ComponentLink1URL: http://www.maxim-ic.com; ComponentLink2Description: Datasheet; ComponentLink2URL: http://datasheets.maxim-ic.com/en/ds/MAX8526-MAX8528.pdf; ComponentLink3Description: Package Specification; ComponentLink3URL: http://pdfserv.maxim-ic.com/package_dwgs/21-0108.PDF
footprint U14E+3_N (TSSOP, 14-Leads, Body 5x4.4mm, Pitch 0.65mm, Thermal Pad, IPC Medium Density)
footprint U14E+3_L (TSSOP, 14-Leads, Body 5x4.4mm, Pitch 0.65mm, Thermal Pad, IPC High Density)
footprint U14E+3_M (TSSOP, 14-Leads, Body 5x4.4mm, Pitch 0.65mm, Thermal Pad, IPC Low Density)
pins: 1 EN (in), 2 IN (power), 3 IN (power), 4 IN (power), 5 IN (power), 6 TP, 7 TP, 8 GND (power), 9 FB (in), 10 OUT (power), 11 OUT (power), 12 OUT (power), 13 OUT (power), 14 TP, 15 EP (power)

## MAX8526EUD+T
designator U?
1.425V to 3.6V Input, 2A, 0.2V Dropout LDO Regulator, 14-Pin TSSOP-EP, -40°C to +85°C, Pb-Free, Tape and Reel; DatasheetVersion: Rev 2, Aug-2009; PackageVersion: revK, 2010; PackageReference: U14E+3; PackageDescription: 14-Pin Thin Shrink Small-Outline Package, Exposed Pad, 5 x 4.4 mm Body ,0.65 mm Pitch, Pb-Free; Code_JEDEC: MO-153-ABT-1; ComponentLink1Description: Manufacturer URL; ComponentLink1URL: http://www.maxim-ic.com; ComponentLink2Description: Datasheet; ComponentLink2URL: http://datasheets.maxim-ic.com/en/ds/MAX8526-MAX8528.pdf; ComponentLink3Description: Package Specification; ComponentLink3URL: http://pdfserv.maxim-ic.com/package_dwgs/21-0108.PDF
footprint U14E+3_N (TSSOP, 14-Leads, Body 5x4.4mm, Pitch 0.65mm, Thermal Pad, IPC Medium Density)
footprint U14E+3_L (TSSOP, 14-Leads, Body 5x4.4mm, Pitch 0.65mm, Thermal Pad, IPC High Density)
footprint U14E+3_M (TSSOP, 14-Leads, Body 5x4.4mm, Pitch 0.65mm, Thermal Pad, IPC Low Density)
pins: 1 EN (in), 2 IN (power), 3 IN (power), 4 IN (power), 5 IN (power), 6 TP, 7 TP, 8 GND (power), 9 FB (in), 10 OUT (power), 11 OUT (power), 12 OUT (power), 13 OUT (power), 14 TP, 15 EP (power)

## MAX8526EUD-T
designator U?
1.425V to 3.6V Input, 2A, 0.2V Dropout LDO Regulator, 14-Pin TSSOP-EP, -40°C to +85°C, Tape and Reel; DatasheetVersion: Rev 2, Aug-2009; PackageVersion: revK, 2010; PackageReference: U14E-3; PackageDescription: 14-Pin Thin Shrink Small-Outline Package, Exposed Pad, 5 x 4.4 mm Body ,0.65 mm Pitch; Code_JEDEC: MO-153-ABT-1; ComponentLink1Description: Manufacturer URL; ComponentLink1URL: http://www.maxim-ic.com; ComponentLink2Description: Datasheet; ComponentLink2URL: http://datasheets.maxim-ic.com/en/ds/MAX8526-MAX8528.pdf; ComponentLink3Description: Package Specification; ComponentLink3URL: http://pdfserv.maxim-ic.com/package_dwgs/21-0108.PDF
footprint U14E-3_N (TSSOP, 14-Leads, Body 5x4.4mm, Pitch 0.65mm, Thermal Pad, IPC Medium Density)
footprint U14E-3_L (TSSOP, 14-Leads, Body 5x4.4mm, Pitch 0.65mm, Thermal Pad, IPC High Density)
footprint U14E-3_M (TSSOP, 14-Leads, Body 5x4.4mm, Pitch 0.65mm, Thermal Pad, IPC Low Density)
pins: 1 EN (in), 2 IN (power), 3 IN (power), 4 IN (power), 5 IN (power), 6 TP, 7 TP, 8 GND (power), 9 FB (in), 10 OUT (power), 11 OUT (power), 12 OUT (power), 13 OUT (power), 14 TP, 15 EP (power)

## MAX8527EUD
designator U?
1.425V to 3.6V Input, 2A, 0.2V Dropout LDO Regulator with POK Output, 14-Pin TSSOP-EP, -40°C to +85°C; DatasheetVersion: Rev 2, Aug-2009; PackageVersion: revK, 2010; PackageReference: U14E-3; PackageDescription: 14-Pin Thin Shrink Small-Outline Package, Exposed Pad, 5 x 4.4 mm Body ,0.65 mm Pitch; Code_JEDEC: MO-153-ABT-1; ComponentLink1Description: Manufacturer URL; ComponentLink1URL: http://www.maxim-ic.com; ComponentLink2Description: Datasheet; ComponentLink2URL: http://datasheets.maxim-ic.com/en/ds/MAX8526-MAX8528.pdf; ComponentLink3Description: Package Specification; ComponentLink3URL: http://pdfserv.maxim-ic.com/package_dwgs/21-0108.PDF
footprint U14E-3_N (TSSOP, 14-Leads, Body 5x4.4mm, Pitch 0.65mm, Thermal Pad, IPC Medium Density)
footprint U14E-3_L (TSSOP, 14-Leads, Body 5x4.4mm, Pitch 0.65mm, Thermal Pad, IPC High Density)
footprint U14E-3_M (TSSOP, 14-Leads, Body 5x4.4mm, Pitch 0.65mm, Thermal Pad, IPC Low Density)
pins: 1 EN (in), 2 IN (power), 3 IN (power), 4 IN (power), 5 IN (power), 6 POK (oc), 7 TP, 8 GND (power), 9 FB (in), 10 OUT (power), 11 OUT (power), 12 OUT (power), 13 OUT (power), 14 TP, 15 EP (power)

## MAX8527EUD+
designator U?
1.425V to 3.6V Input, 2A, 0.2V Dropout LDO Regulator with POK Output, 14-Pin TSSOP-EP, -40°C to +85°C, Pb-Free; DatasheetVersion: Rev 2, Aug-2009; PackageVersion: revK, 2010; PackageReference: U14E+3; PackageDescription: 14-Pin Thin Shrink Small-Outline Package, Exposed Pad, 5 x 4.4 mm Body ,0.65 mm Pitch, Pb-Free; Code_JEDEC: MO-153-ABT-1; ComponentLink1Description: Manufacturer URL; ComponentLink1URL: http://www.maxim-ic.com; ComponentLink2Description: Datasheet; ComponentLink2URL: http://datasheets.maxim-ic.com/en/ds/MAX8526-MAX8528.pdf; ComponentLink3Description: Package Specification; ComponentLink3URL: http://pdfserv.maxim-ic.com/package_dwgs/21-0108.PDF
footprint U14E+3_N (TSSOP, 14-Leads, Body 5x4.4mm, Pitch 0.65mm, Thermal Pad, IPC Medium Density)
footprint U14E+3_L (TSSOP, 14-Leads, Body 5x4.4mm, Pitch 0.65mm, Thermal Pad, IPC High Density)
footprint U14E+3_M (TSSOP, 14-Leads, Body 5x4.4mm, Pitch 0.65mm, Thermal Pad, IPC Low Density)
pins: 1 EN (in), 2 IN (power), 3 IN (power), 4 IN (power), 5 IN (power), 6 POK (oc), 7 TP, 8 GND (power), 9 FB (in), 10 OUT (power), 11 OUT (power), 12 OUT (power), 13 OUT (power), 14 TP, 15 EP (power)

## MAX8527EUD+T
designator U?
1.425V to 3.6V Input, 2A, 0.2V Dropout LDO Regulator with POK Output, 14-Pin TSSOP-EP, -40°C to +85°C, Pb-Free, Tape and Reel; DatasheetVersion: Rev 2, Aug-2009; PackageVersion: revK, 2010; PackageReference: U14E+3; PackageDescription: 14-Pin Thin Shrink Small-Outline Package, Exposed Pad, 5 x 4.4 mm Body ,0.65 mm Pitch, Pb-Free; Code_JEDEC: MO-153-ABT-1; ComponentLink1Description: Manufacturer URL; ComponentLink1URL: http://www.maxim-ic.com; ComponentLink2Description: Datasheet; ComponentLink2URL: http://datasheets.maxim-ic.com/en/ds/MAX8526-MAX8528.pdf; ComponentLink3Description: Package Specification; ComponentLink3URL: http://pdfserv.maxim-ic.com/package_dwgs/21-0108.PDF
footprint U14E+3_N (TSSOP, 14-Leads, Body 5x4.4mm, Pitch 0.65mm, Thermal Pad, IPC Medium Density)
footprint U14E+3_L (TSSOP, 14-Leads, Body 5x4.4mm, Pitch 0.65mm, Thermal Pad, IPC High Density)
footprint U14E+3_M (TSSOP, 14-Leads, Body 5x4.4mm, Pitch 0.65mm, Thermal Pad, IPC Low Density)
pins: 1 EN (in), 2 IN (power), 3 IN (power), 4 IN (power), 5 IN (power), 6 POK (oc), 7 TP, 8 GND (power), 9 FB (in), 10 OUT (power), 11 OUT (power), 12 OUT (power), 13 OUT (power), 14 TP, 15 EP (power)

## MAX8527EUD-T
designator U?
1.425V to 3.6V Input, 2A, 0.2V Dropout LDO Regulator with POK Output, 14-Pin TSSOP-EP, -40°C to +85°C, Tape and Reel; DatasheetVersion: Rev 2, Aug-2009; PackageVersion: revK, 2010; PackageReference: U14E-3; PackageDescription: 14-Pin Thin Shrink Small-Outline Package, Exposed Pad, 5 x 4.4 mm Body ,0.65 mm Pitch; Code_JEDEC: MO-153-ABT-1; ComponentLink1Description: Manufacturer URL; ComponentLink1URL: http://www.maxim-ic.com; ComponentLink2Description: Datasheet; ComponentLink2URL: http://datasheets.maxim-ic.com/en/ds/MAX8526-MAX8528.pdf; ComponentLink3Description: Package Specification; ComponentLink3URL: http://pdfserv.maxim-ic.com/package_dwgs/21-0108.PDF
footprint U14E-3_N (TSSOP, 14-Leads, Body 5x4.4mm, Pitch 0.65mm, Thermal Pad, IPC Medium Density)
footprint U14E-3_L (TSSOP, 14-Leads, Body 5x4.4mm, Pitch 0.65mm, Thermal Pad, IPC High Density)
footprint U14E-3_M (TSSOP, 14-Leads, Body 5x4.4mm, Pitch 0.65mm, Thermal Pad, IPC Low Density)
pins: 1 EN (in), 2 IN (power), 3 IN (power), 4 IN (power), 5 IN (power), 6 POK (oc), 7 TP, 8 GND (power), 9 FB (in), 10 OUT (power), 11 OUT (power), 12 OUT (power), 13 OUT (power), 14 TP, 15 EP (power)

## MAX8527EUD/V+
designator U?
1.425V to 3.6V Input, 2A, 0.2V Dropout LDO Regulator with POK Output, Automotive Qualified, 14-Pin TSSOP-EP, -40°C to +85°C, Pb-Free; DatasheetVersion: Rev 2, Aug-2009; PackageVersion: revK, 2010; PackageReference: U14E+3; PackageDescription: 14-Pin Thin Shrink Small-Outline Package, Exposed Pad, 5 x 4.4 mm Body ,0.65 mm Pitch, Pb-Free; Code_JEDEC: MO-153-ABT-1; ComponentLink1Description: Manufacturer URL; ComponentLink1URL: http://www.maxim-ic.com; ComponentLink2Description: Datasheet; ComponentLink2URL: http://datasheets.maxim-ic.com/en/ds/MAX8526-MAX8528.pdf; ComponentLink3Description: Package Specification; ComponentLink3URL: http://pdfserv.maxim-ic.com/package_dwgs/21-0108.PDF
footprint U14E+3_N (TSSOP, 14-Leads, Body 5x4.4mm, Pitch 0.65mm, Thermal Pad, IPC Medium Density)
footprint U14E+3_L (TSSOP, 14-Leads, Body 5x4.4mm, Pitch 0.65mm, Thermal Pad, IPC High Density)
footprint U14E+3_M (TSSOP, 14-Leads, Body 5x4.4mm, Pitch 0.65mm, Thermal Pad, IPC Low Density)
pins: 1 EN (in), 2 IN (power), 3 IN (power), 4 IN (power), 5 IN (power), 6 POK (oc), 7 TP, 8 GND (power), 9 FB (in), 10 OUT (power), 11 OUT (power), 12 OUT (power), 13 OUT (power), 14 TP, 15 EP (power)

## MAX8527EUD/V+T
designator U?
1.425V to 3.6V Input, 2A, 0.2V Dropout LDO Regulator with POK Output, Automotive Qualified, 14-Pin TSSOP-EP, -40°C to +85°C, Pb-Free, Tape and Reel; DatasheetVersion: Rev 2, Aug-2009; PackageVersion: revK, 2010; PackageReference: U14E+3; PackageDescription: 14-Pin Thin Shrink Small-Outline Package, Exposed Pad, 5 x 4.4 mm Body ,0.65 mm Pitch, Pb-Free; Code_JEDEC: MO-153-ABT-1; ComponentLink1Description: Manufacturer URL; ComponentLink1URL: http://www.maxim-ic.com; ComponentLink2Description: Datasheet; ComponentLink2URL: http://datasheets.maxim-ic.com/en/ds/MAX8526-MAX8528.pdf; ComponentLink3Description: Package Specification; ComponentLink3URL: http://pdfserv.maxim-ic.com/package_dwgs/21-0108.PDF
footprint U14E+3_N (TSSOP, 14-Leads, Body 5x4.4mm, Pitch 0.65mm, Thermal Pad, IPC Medium Density)
footprint U14E+3_L (TSSOP, 14-Leads, Body 5x4.4mm, Pitch 0.65mm, Thermal Pad, IPC High Density)
footprint U14E+3_M (TSSOP, 14-Leads, Body 5x4.4mm, Pitch 0.65mm, Thermal Pad, IPC Low Density)
pins: 1 EN (in), 2 IN (power), 3 IN (power), 4 IN (power), 5 IN (power), 6 POK (oc), 7 TP, 8 GND (power), 9 FB (in), 10 OUT (power), 11 OUT (power), 12 OUT (power), 13 OUT (power), 14 TP, 15 EP (power)

## MAX8528EUD
designator U?
1.425V to 3.6V Input, 2A, 0.2V Dropout LDO Regulator with 150ms Power-On Reset Output, 14-Pin TSSOP-EP, -40°C to +85°C; DatasheetVersion: Rev 2, Aug-2009; PackageVersion: revK, 2010; PackageReference: U14E-3; PackageDescription: 14-Pin Thin Shrink Small-Outline Package, Exposed Pad, 5 x 4.4 mm Body ,0.65 mm Pitch; Code_JEDEC: MO-153-ABT-1; ComponentLink1Description: Manufacturer URL; ComponentLink1URL: http://www.maxim-ic.com; ComponentLink2Description: Datasheet; ComponentLink2URL: http://datasheets.maxim-ic.com/en/ds/MAX8526-MAX8528.pdf; ComponentLink3Description: Package Specification; ComponentLink3URL: http://pdfserv.maxim-ic.com/package_dwgs/21-0108.PDF
footprint U14E-3_N (TSSOP, 14-Leads, Body 5x4.4mm, Pitch 0.65mm, Thermal Pad, IPC Medium Density)
footprint U14E-3_L (TSSOP, 14-Leads, Body 5x4.4mm, Pitch 0.65mm, Thermal Pad, IPC High Density)
footprint U14E-3_M (TSSOP, 14-Leads, Body 5x4.4mm, Pitch 0.65mm, Thermal Pad, IPC Low Density)
pins: 1 EN (in), 2 IN (power), 3 IN (power), 4 IN (power), 5 IN (power), 6 TP, 7 POR (oc), 8 GND (power), 9 FB (in), 10 OUT (power), 11 OUT (power), 12 OUT (power), 13 OUT (power), 14 TP, 15 EP (power)

## MAX8528EUD+
designator U?
1.425V to 3.6V Input, 2A, 0.2V Dropout LDO Regulator with 150ms Power-On Reset Output, 14-Pin TSSOP-EP, -40°C to +85°C, Pb-Free; DatasheetVersion: Rev 2, Aug-2009; PackageVersion: revK, 2010; PackageReference: U14E+3; PackageDescription: 14-Pin Thin Shrink Small-Outline Package, Exposed Pad, 5 x 4.4 mm Body ,0.65 mm Pitch, Pb-Free; Code_JEDEC: MO-153-ABT-1; ComponentLink1Description: Manufacturer URL; ComponentLink1URL: http://www.maxim-ic.com; ComponentLink2Description: Datasheet; ComponentLink2URL: http://datasheets.maxim-ic.com/en/ds/MAX8526-MAX8528.pdf; ComponentLink3Description: Package Specification; ComponentLink3URL: http://pdfserv.maxim-ic.com/package_dwgs/21-0108.PDF
footprint U14E+3_N (TSSOP, 14-Leads, Body 5x4.4mm, Pitch 0.65mm, Thermal Pad, IPC Medium Density)
footprint U14E+3_L (TSSOP, 14-Leads, Body 5x4.4mm, Pitch 0.65mm, Thermal Pad, IPC High Density)
footprint U14E+3_M (TSSOP, 14-Leads, Body 5x4.4mm, Pitch 0.65mm, Thermal Pad, IPC Low Density)
pins: 1 EN (in), 2 IN (power), 3 IN (power), 4 IN (power), 5 IN (power), 6 TP, 7 POR (oc), 8 GND (power), 9 FB (in), 10 OUT (power), 11 OUT (power), 12 OUT (power), 13 OUT (power), 14 TP, 15 EP (power)

## MAX8528EUD+T
designator U?
1.425V to 3.6V Input, 2A, 0.2V Dropout LDO Regulator with 150ms Power-On Reset Output, 14-Pin TSSOP-EP, -40°C to +85°C, Pb-Free, Tape and Reel; DatasheetVersion: Rev 2, Aug-2009; PackageVersion: revK, 2010; PackageReference: U14E+3; PackageDescription: 14-Pin Thin Shrink Small-Outline Package, Exposed Pad, 5 x 4.4 mm Body ,0.65 mm Pitch, Pb-Free; Code_JEDEC: MO-153-ABT-1; ComponentLink1Description: Manufacturer URL; ComponentLink1URL: http://www.maxim-ic.com; ComponentLink2Description: Datasheet; ComponentLink2URL: http://datasheets.maxim-ic.com/en/ds/MAX8526-MAX8528.pdf; ComponentLink3Description: Package Specification; ComponentLink3URL: http://pdfserv.maxim-ic.com/package_dwgs/21-0108.PDF
footprint U14E+3_N (TSSOP, 14-Leads, Body 5x4.4mm, Pitch 0.65mm, Thermal Pad, IPC Medium Density)
footprint U14E+3_L (TSSOP, 14-Leads, Body 5x4.4mm, Pitch 0.65mm, Thermal Pad, IPC High Density)
footprint U14E+3_M (TSSOP, 14-Leads, Body 5x4.4mm, Pitch 0.65mm, Thermal Pad, IPC Low Density)
pins: 1 EN (in), 2 IN (power), 3 IN (power), 4 IN (power), 5 IN (power), 6 TP, 7 POR (oc), 8 GND (power), 9 FB (in), 10 OUT (power), 11 OUT (power), 12 OUT (power), 13 OUT (power), 14 TP, 15 EP (power)

## MAX8528EUD-T
designator U?
1.425V to 3.6V Input, 2A, 0.2V Dropout LDO Regulator with 150ms Power-On Reset Output, 14-Pin TSSOP-EP, -40°C to +85°C, Tape and Reel; DatasheetVersion: Rev 2, Aug-2009; PackageVersion: revK, 2010; PackageReference: U14E-3; PackageDescription: 14-Pin Thin Shrink Small-Outline Package, Exposed Pad, 5 x 4.4 mm Body ,0.65 mm Pitch; Code_JEDEC: MO-153-ABT-1; ComponentLink1Description: Manufacturer URL; ComponentLink1URL: http://www.maxim-ic.com; ComponentLink2Description: Datasheet; ComponentLink2URL: http://datasheets.maxim-ic.com/en/ds/MAX8526-MAX8528.pdf; ComponentLink3Description: Package Specification; ComponentLink3URL: http://pdfserv.maxim-ic.com/package_dwgs/21-0108.PDF
footprint U14E-3_N (TSSOP, 14-Leads, Body 5x4.4mm, Pitch 0.65mm, Thermal Pad, IPC Medium Density)
footprint U14E-3_L (TSSOP, 14-Leads, Body 5x4.4mm, Pitch 0.65mm, Thermal Pad, IPC High Density)
footprint U14E-3_M (TSSOP, 14-Leads, Body 5x4.4mm, Pitch 0.65mm, Thermal Pad, IPC Low Density)
pins: 1 EN (in), 2 IN (power), 3 IN (power), 4 IN (power), 5 IN (power), 6 TP, 7 POR (oc), 8 GND (power), 9 FB (in), 10 OUT (power), 11 OUT (power), 12 OUT (power), 13 OUT (power), 14 TP, 15 EP (power)

## MAX8543EEE
designator U?
Step-Down Controllers with Prebias Startup, Lossless Sensing, Synchronization, and OVP, 16-Pin QSOP, -40°C to +85°C; DatasheetVersion: Rev 0, May-2004; PackageVersion: revJ, 2009; PackageReference: E16-1; PackageDescription: 16-Pin Quarter Small-Outline Package (QSOP) 0.150" Width, 0.025" Pitch; Code_JEDEC: MO-137-AB; ComponentLink1Description: Manufacturer URL; ComponentLink1URL: http://www.maxim-ic.com; ComponentLink2Description: Datasheet; ComponentLink2URL: http://datasheets.maxim-ic.com/en/ds/MAX8543-MAX8544.pdf; ComponentLink3Description: Package Specification; ComponentLink3URL: http://pdfserv.maxim-ic.com/package_dwgs/21-0055.PDF
footprint E16-1_N (SOP, 16-Leads, Body 4.9x3.9mm, Pitch 0.635mm, IPC Medium Density)
footprint E16-1_L (SOP, 16-Leads, Body 4.9x3.9mm, Pitch 0.635mm, IPC High Density)
footprint E16-1_M (SOP, 16-Leads, Body 4.9x3.9mm, Pitch 0.635mm, IPC Low Density)
pins: 1 GND (power), 2 SS, 3 COMP, 4 FB (in), 5 EN (in), 6 CS- (in), 7 CS+ (in), 8 ILIM (in), 9 PGND (power), 10 DL (out), 11 VL (power), 12 IN (power), 13 LX, 14 DH (out), 15 BST, 16 FSYNC (in)

## MAX8543EEE+
designator U?
Step-Down Controllers with Prebias Startup, Lossless Sensing, Synchronization, and OVP, 16-Pin QSOP, -40°C to +85°C, Pb-Free; DatasheetVersion: Rev 0, May-2004; PackageVersion: revJ, 2009; PackageReference: E16+1; PackageDescription: 16-Pin Quarter Small-Outline Package (QSOP) 0.150" Width, 0.025" Pitch, Pb-Free; Code_JEDEC: MO-137-AB; ComponentLink1Description: Manufacturer URL; ComponentLink1URL: http://www.maxim-ic.com; ComponentLink2Description: Datasheet; ComponentLink2URL: http://datasheets.maxim-ic.com/en/ds/MAX8543-MAX8544.pdf; ComponentLink3Description: Package Specification; ComponentLink3URL: http://pdfserv.maxim-ic.com/package_dwgs/21-0055.PDF
footprint E16+1_N (SOP, 16-Leads, Body 4.9x3.9mm, Pitch 0.635mm, IPC Medium Density)
footprint E16+1_L (SOP, 16-Leads, Body 4.9x3.9mm, Pitch 0.635mm, IPC High Density)
footprint E16+1_M (SOP, 16-Leads, Body 4.9x3.9mm, Pitch 0.635mm, IPC Low Density)
pins: 1 GND (power), 2 SS, 3 COMP, 4 FB (in), 5 EN (in), 6 CS- (in), 7 CS+ (in), 8 ILIM (in), 9 PGND (power), 10 DL (out), 11 VL (power), 12 IN (power), 13 LX, 14 DH (out), 15 BST, 16 FSYNC (in)

## MAX8543EEE+T
designator U?
Step-Down Controllers with Prebias Startup, Lossless Sensing, Synchronization, and OVP, 16-Pin QSOP, -40°C to +85°C, Pb-Free, Tape and Reel; DatasheetVersion: Rev 0, May-2004; PackageVersion: revJ, 2009; PackageReference: E16+1; PackageDescription: 16-Pin Quarter Small-Outline Package (QSOP) 0.150" Width, 0.025" Pitch, Pb-Free; Code_JEDEC: MO-137-AB; ComponentLink1Description: Manufacturer URL; ComponentLink1URL: http://www.maxim-ic.com; ComponentLink2Description: Datasheet; ComponentLink2URL: http://datasheets.maxim-ic.com/en/ds/MAX8543-MAX8544.pdf; ComponentLink3Description: Package Specification; ComponentLink3URL: http://pdfserv.maxim-ic.com/package_dwgs/21-0055.PDF
footprint E16+1_N (SOP, 16-Leads, Body 4.9x3.9mm, Pitch 0.635mm, IPC Medium Density)
footprint E16+1_L (SOP, 16-Leads, Body 4.9x3.9mm, Pitch 0.635mm, IPC High Density)
footprint E16+1_M (SOP, 16-Leads, Body 4.9x3.9mm, Pitch 0.635mm, IPC Low Density)
pins: 1 GND (power), 2 SS, 3 COMP, 4 FB (in), 5 EN (in), 6 CS- (in), 7 CS+ (in), 8 ILIM (in), 9 PGND (power), 10 DL (out), 11 VL (power), 12 IN (power), 13 LX, 14 DH (out), 15 BST, 16 FSYNC (in)

## MAX8543EEE-T
designator U?
Step-Down Controllers with Prebias Startup, Lossless Sensing, Synchronization, and OVP, 16-Pin QSOP, -40°C to +85°C, Tape and Reel; DatasheetVersion: Rev 0, May-2004; PackageVersion: revJ, 2009; PackageReference: E16-1; PackageDescription: 16-Pin Quarter Small-Outline Package (QSOP) 0.150" Width, 0.025" Pitch; Code_JEDEC: MO-137-AB; ComponentLink1Description: Manufacturer URL; ComponentLink1URL: http://www.maxim-ic.com; ComponentLink2Description: Datasheet; ComponentLink2URL: http://datasheets.maxim-ic.com/en/ds/MAX8543-MAX8544.pdf; ComponentLink3Description: Package Specification; ComponentLink3URL: http://pdfserv.maxim-ic.com/package_dwgs/21-0055.PDF
footprint E16-1_N (SOP, 16-Leads, Body 4.9x3.9mm, Pitch 0.635mm, IPC Medium Density)
footprint E16-1_L (SOP, 16-Leads, Body 4.9x3.9mm, Pitch 0.635mm, IPC High Density)
footprint E16-1_M (SOP, 16-Leads, Body 4.9x3.9mm, Pitch 0.635mm, IPC Low Density)
pins: 1 GND (power), 2 SS, 3 COMP, 4 FB (in), 5 EN (in), 6 CS- (in), 7 CS+ (in), 8 ILIM (in), 9 PGND (power), 10 DL (out), 11 VL (power), 12 IN (power), 13 LX, 14 DH (out), 15 BST, 16 FSYNC (in)